# Altium schematic symbol library Schematics.SchLib: 13 symbols
Pins are listed as number, name and electrical type; pins without a type are passive.

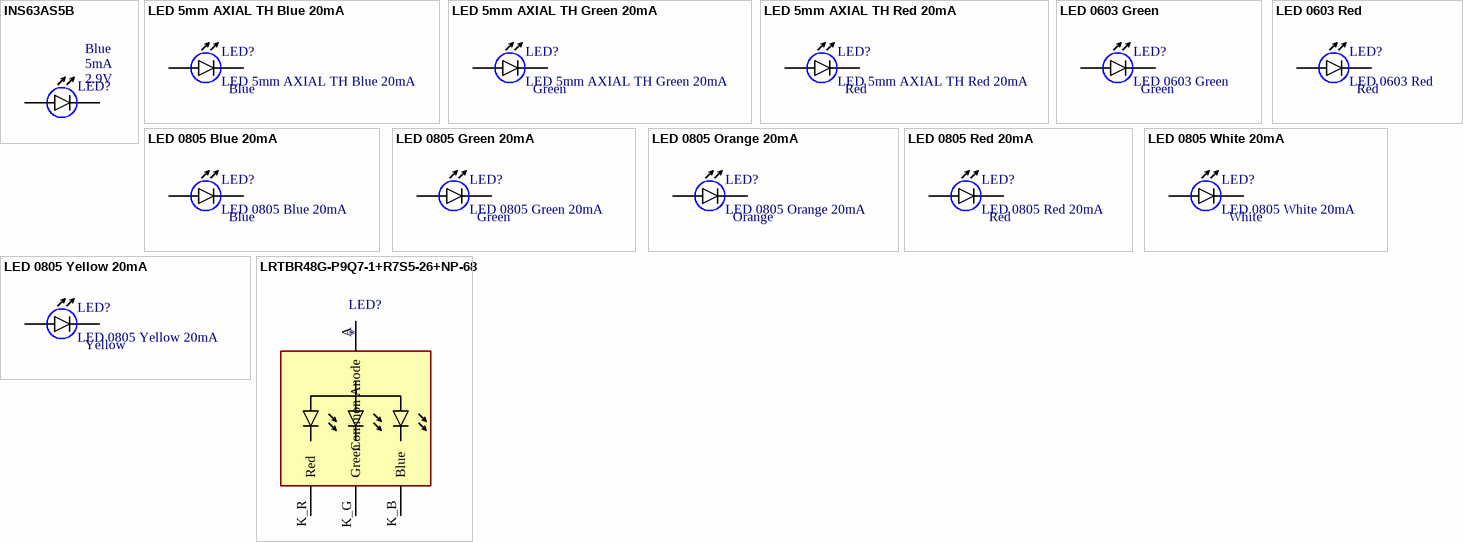
[diagram p0: symbols INS63AS5B to LRTBR48G-P9Q7-1+R7S5-26+NP-68]

## INS63AS5B
designator LED?  Max current: 5mA  Forward voltage drop: 2.9V  Colour: Blue  (hidden comment: INS63AS5B)
LED 0603 Blue 5mA 2.9V Side View
footprint 0603-INS63AS5B
pins: A, K

## LED 5mm AXIAL TH Blue 20mA
designator LED?  Colour: Blue
Max radiant intensity: 170mW/sr; Max current: 100mA; Forward voltage drop: 2V
footprint LED TH 5mm BLUE (Through hole 5mm LED)
pins: A, K

## LED 5mm AXIAL TH Green 20mA
designator LED?  Colour: Green
Max radiant intensity: 170mW/sr; Max current: 100mA; Forward voltage drop: 2V
footprint LED TH 5mm Green (Through hole 5mm LED)
pins: A, K

## LED 5mm AXIAL TH Red 20mA
designator LED?  Colour: Red
Max radiant intensity: 170mW/sr; Max current: 100mA; Forward voltage drop: 2V
footprint LED TH 5mm RED (Through hole 5mm LED)
pins: A, K

## LED 0603 Green
designator LED?  Colour: Green
Max radiant intensity: 170mW/sr; Max current: 100mA; Forward voltage drop: 2V
footprint LC-0603_LED_S1
footprint Model Name (Footprint not found)
pins: A, K

## LED 0603 Red
designator LED?  Colour: Red
Max radiant intensity: 170mW/sr; Max current: 100mA; Forward voltage drop: 2V
footprint LC-0603_LED_S1
footprint Model Name (Footprint not found)
pins: A, K

## LED 0805 Blue 20mA
designator LED?  Colour: Blue
Max radiant intensity: 170mW/sr; Max current: 100mA; Forward voltage drop: 2V
footprint LC-0805_LED_S1
footprint Model Name (Footprint not found)
pins: A, K

## LED 0805 Green 20mA
designator LED?  Colour: Green
Max radiant intensity: 170mW/sr; Max current: 100mA; Forward voltage drop: 2V
footprint LC-0805_LED_S1
footprint Model Name (Footprint not found)
pins: A, K

## LED 0805 Orange 20mA
designator LED?  Colour: Orange
Max radiant intensity: 170mW/sr; Max current: 100mA; Forward voltage drop: 2V
footprint LC-0805_LED_S1
footprint Model Name (Footprint not found)
pins: A, K

## LED 0805 Red 20mA
designator LED?  Colour: Red
Max radiant intensity: 170mW/sr; Max current: 100mA; Forward voltage drop: 2V
footprint LC-0805_LED_S1
footprint Model Name (Footprint not found)
pins: A, K

## LED 0805 White 20mA
designator LED?  Colour: White
Max radiant intensity: 170mW/sr; Max current: 100mA; Forward voltage drop: 2V
footprint LC-0805_LED_S1
pins: A, K

## LED 0805 Yellow 20mA
designator LED?  Colour: Yellow
Max radiant intensity: 170mW/sr; Max current: 100mA; Forward voltage drop: 2V
footprint LC-0805_LED_S1
footprint Model Name (Footprint not found)
pins: A, K

## LRTBR48G-P9Q7-1+R7S5-26+NP-68
designator LED?
LED; Manufacturer_Name: OSRAM; Manufacturer_Part_Number: LRTBR48G-P9Q7-1+R7S5-26+NP-68; Description: Standard LEDs - SMD Multi CHIPLED RGB 623nm 530nm 471nm; Datasheet Link: https://www.osram.com/os/ecat/Multi%20CHIPLED%C2%AE%20LRTBR48G/com/en/class_pim_web_catalog_103489/global/prd_pim_device_2190793/; Height: 0.65mm; Mouser2 Part Number: 720-LRTBR48GP9A3521; Mouser2 Price/Stock: https://www.mouser.com/Search/Refine.aspx?Keyword=720-LRTBR48GP9A3521
footprint LRTBR48GP9Q71R7S526NP68
pins: A Common Anode, K_B Blue, K_G Green, K_R Red